# EAGLE library part 6PIN (library RF_Head)
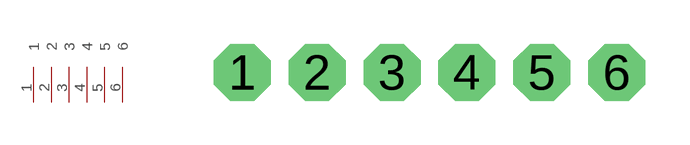
[diagram p1: symbol with the pads of 6PIN; footprint 6PIN]

Designator prefix -

## 6PIN  [6PIN]
1  1  pas
2  2  pas
3  3  pas
4  4  pas
5  5  pas
6  6  pas

## Footprint 6PIN (pad centres in mm)
6PIN
drill 1.016 pad 1.93 octagon: 1 0,0; 2 2.54,0; 3 5.08,0; 4 7.62,0; 5 10.16,0; 6 12.7,0